# Altium integrated library NXP Semiconductors Automotive MOSFETs.IntLib: 540 symbols (part 8 of 16)
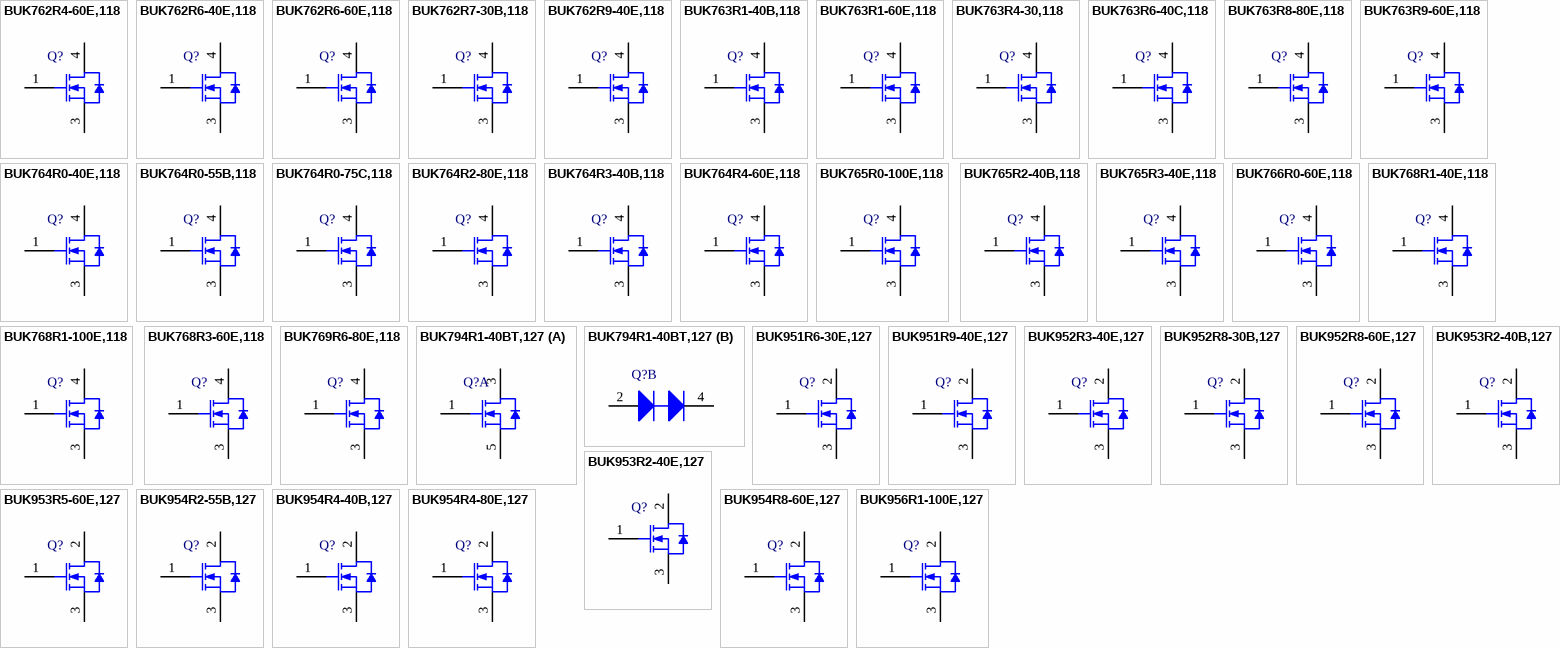
[diagram p21: symbols BUK762R4-60E,118 to BUK956R1-100E,127]

## BUK763R1-60E,118
designator Q?
N-Channel TrenchMOS Standard Level FET, 60 V, 120 A, 3-Pin SOT404, Tape and Reel; Manufacturer: NXP Semiconductors; PartNumber: BUK763R1-60E,118; Automotive Qualified: Y; Channel Type: N; ID [max] (A): 120; IDM [max] (A): 834; Packing: Tape & Reel; Qr [typ] (nC): 59.3; VDS [max] (V): 60; VGSth [typ] (V): 3; PackageVersion: 13-02-25, 02/2013; PackageReference: SOT404; PackageDescription: 3-Pin Plastic Single-ended Surface Mounted Package, Body 10 x 9.6 mm, Pitch 2.54 mm; Supplier 1: Digi-Key; Supplier Part Number 1: 568-9881-2-ND; Supplier 2: Digi-Key; Supplier Part Number 2: 568-9881-1-ND; Supplier 3: Digi-Key; Supplier Part Number 3: 568-9881-6-ND; Supplier 4: Mouser; Supplier Part Number 4: 771-BUK763R1-60E118; Mounting Technology: Surface Mount; ComponentLink1Description: Manufacturer URL; ComponentLink1URL: http://www.nxp.com/; ComponentLink2Description: Datasheet; ComponentLink2URL: http://www.nxp.com/documents/data_sheet/BUK763R1-60E.pdf; ComponentLink3Description: Package Specification; ComponentLink3URL: http://www.nxp.com/documents/outline_drawing/sot404_po.pdf
footprint NXP-SOT404_N (DPAK, 3-Leads, Body 10.3x9.8mm, Pitch 2.54mm, IPC Medium Density)
footprint NXP-SOT404_L (DPAK, 3-Leads, Body 10.3x9.8mm, Pitch 2.54mm, IPC High Density)
footprint NXP-SOT404_M (DPAK, 3-Leads, Body 10.3x9.8mm, Pitch 2.54mm, IPC Low Density)
pins: 1 G "gate", 3 S "source", 4 D "mounting base; connected to drain"

## BUK763R4-30,118
designator Q?
N-Channel TrenchMOS Standard Level FET, 30 V, 3-Pin SOT404, Tape and Reel; Manufacturer: NXP Semiconductors; PartNumber: BUK763R4-30,118; Automotive Qualified: Y; Channel Type: N; IDM [max] (A): 794; Packing: Tape & Reel; Qr [typ] (nC): 58; VDS [max] (V): 30; VGSth [typ] (V): 3; DatasheetVersion: Rev. 2; PackageVersion: 13-02-25, 02/2013; PackageReference: SOT404; PackageDescription: 3-Pin Plastic Single-ended Surface Mounted Package, Body 10 x 9.6 mm, Pitch 2.54 mm; Supplier 1: Mouser; Supplier Part Number 1: 771-BUK763R4-30,118; Mounting Technology: Surface Mount; ComponentLink1Description: Manufacturer URL; ComponentLink1URL: http://www.nxp.com/; ComponentLink2Description: Datasheet; ComponentLink2URL: http://www.nxp.com/documents/data_sheet/BUK763R4-30B.pdf; ComponentLink3Description: Package Specification; ComponentLink3URL: http://www.nxp.com/documents/outline_drawing/sot404_po.pdf
footprint NXP-SOT404_N (DPAK, 3-Leads, Body 10.3x9.8mm, Pitch 2.54mm, IPC Medium Density)
footprint NXP-SOT404_L (DPAK, 3-Leads, Body 10.3x9.8mm, Pitch 2.54mm, IPC High Density)
footprint NXP-SOT404_M (DPAK, 3-Leads, Body 10.3x9.8mm, Pitch 2.54mm, IPC Low Density)
pins: 1 G "gate", 3 S "source", 4 D "mounting base; connected to drain"

## BUK763R6-40C,118
designator Q?
N-Channel TrenchMOS Standard Level FET, 40 V, 3-Pin SOT404, Tape and Reel; Manufacturer: NXP Semiconductors; PartNumber: BUK763R6-40C,118; Automotive Qualified: Y; Channel Type: N; IDM [max] (A): 668; Packing: Tape & Reel; Qr [typ] (nC): 57; VDS [max] (V): 40; VGSth [typ] (V): 3; DatasheetVersion: Rev. 04; PackageVersion: 13-02-25, 02/2013; PackageReference: SOT404; PackageDescription: 3-Pin Plastic Single-ended Surface Mounted Package, Body 10 x 9.6 mm, Pitch 2.54 mm; Supplier 1: Digi-Key; Supplier Part Number 1: 568-5295-2-ND; Supplier 2: Digi-Key; Supplier Part Number 2: 568-5295-1-ND; Supplier 3: Digi-Key; Supplier Part Number 3: 568-5295-6-ND; Supplier 4: Mouser; Supplier Part Number 4: 771-BUK763R6-40C118; Mounting Technology: Surface Mount; ComponentLink1Description: Manufacturer URL; ComponentLink1URL: http://www.nxp.com/; ComponentLink2Description: Datasheet; ComponentLink2URL: http://www.nxp.com/documents/data_sheet/BUK763R6-40C.pdf; ComponentLink3Description: Package Specification; ComponentLink3URL: http://www.nxp.com/documents/outline_drawing/sot404_po.pdf
footprint NXP-SOT404_N (DPAK, 3-Leads, Body 10.3x9.8mm, Pitch 2.54mm, IPC Medium Density)
footprint NXP-SOT404_L (DPAK, 3-Leads, Body 10.3x9.8mm, Pitch 2.54mm, IPC High Density)
footprint NXP-SOT404_M (DPAK, 3-Leads, Body 10.3x9.8mm, Pitch 2.54mm, IPC Low Density)
pins: 1 G "gate", 3 S "source", 4 D "mounting base; connected to drain"

## BUK763R8-80E,118
designator Q?
N-Channel TrenchMOS Standard Level FET, 80 V, 120 A, 3-Pin SOT404, Tape and Reel; Manufacturer: NXP Semiconductors; PartNumber: BUK763R8-80E,118; Automotive Qualified: Y; Channel Type: N; ID [max] (A): 120; IDM [max] (A): 786; Packing: Tape & Reel; Qr [typ] (nC): 121; VDS [max] (V): 80; VGSth [typ] (V): 3; DatasheetVersion: Rev. 2; PackageVersion: 13-02-25, 02/2013; PackageReference: SOT404; PackageDescription: 3-Pin Plastic Single-ended Surface Mounted Package, Body 10 x 9.6 mm, Pitch 2.54 mm; Supplier 1: Digi-Key; Supplier Part Number 1: BUK763R8-80E,118-ND; Supplier 2: Mouser; Supplier Part Number 2: 771-BUK763R8-80E118; Mounting Technology: Surface Mount; ComponentLink1Description: Manufacturer URL; ComponentLink1URL: http://www.nxp.com/; ComponentLink2Description: Datasheet; ComponentLink2URL: http://www.nxp.com/documents/data_sheet/BUK763R8-80E.pdf; ComponentLink3Description: Package Specification; ComponentLink3URL: http://www.nxp.com/documents/outline_drawing/sot404_po.pdf
footprint NXP-SOT404_N (DPAK, 3-Leads, Body 10.3x9.8mm, Pitch 2.54mm, IPC Medium Density)
footprint NXP-SOT404_L (DPAK, 3-Leads, Body 10.3x9.8mm, Pitch 2.54mm, IPC High Density)
footprint NXP-SOT404_M (DPAK, 3-Leads, Body 10.3x9.8mm, Pitch 2.54mm, IPC Low Density)
pins: 1 G "gate", 3 S "source", 4 D "mounting base; connected to drain"

## BUK763R9-60E,118
designator Q?
N-Channel TrenchMOS Standard Level FET, 60 V, 100 A, 3-Pin SOT404, Tape and Reel; Manufacturer: NXP Semiconductors; PartNumber: BUK763R9-60E,118; Automotive Qualified: Y; Channel Type: N; ID [max] (A): 100; IDM [max] (A): 706; Packing: Tape & Reel; Qr [typ] (nC): 51; VDS [max] (V): 60; VGSth [typ] (V): 3; PackageVersion: 13-02-25, 02/2013; PackageReference: SOT404; PackageDescription: 3-Pin Plastic Single-ended Surface Mounted Package, Body 10 x 9.6 mm, Pitch 2.54 mm; Supplier 1: Digi-Key; Supplier Part Number 1: 568-10176-2-ND; Supplier 2: Digi-Key; Supplier Part Number 2: 568-10176-1-ND; Supplier 3: Digi-Key; Supplier Part Number 3: 568-10176-6-ND; Supplier 4: Mouser; Supplier Part Number 4: 771-BUK763R9-60E118; Mounting Technology: Surface Mount; ComponentLink1Description: Manufacturer URL; ComponentLink1URL: http://www.nxp.com/; ComponentLink2Description: Datasheet; ComponentLink2URL: http://www.nxp.com/documents/data_sheet/BUK763R9-60E.pdf; ComponentLink3Description: Package Specification; ComponentLink3URL: http://www.nxp.com/documents/outline_drawing/sot404_po.pdf
footprint NXP-SOT404_N (DPAK, 3-Leads, Body 10.3x9.8mm, Pitch 2.54mm, IPC Medium Density)
footprint NXP-SOT404_L (DPAK, 3-Leads, Body 10.3x9.8mm, Pitch 2.54mm, IPC High Density)
footprint NXP-SOT404_M (DPAK, 3-Leads, Body 10.3x9.8mm, Pitch 2.54mm, IPC Low Density)
pins: 1 G "gate", 3 S "source", 4 D "mounting base; connected to drain"

## BUK764R0-40E,118
designator Q?
N-Channel TrenchMOS Standard Level FET, 40 V, 75 A, 3-Pin SOT404, Tape and Reel; Manufacturer: NXP Semiconductors; PartNumber: BUK764R0-40E,118; Automotive Qualified: Y; Channel Type: N; ID [max] (A): 75; IDM [max] (A): 620; Packing: Tape & Reel; Qr [typ] (nC): 28.9; VDS [max] (V): 40; VGSth [typ] (V): 3; PackageVersion: 13-02-25, 02/2013; PackageReference: SOT404; PackageDescription: 3-Pin Plastic Single-ended Surface Mounted Package, Body 10 x 9.6 mm, Pitch 2.54 mm; Supplier 1: Digi-Key; Supplier Part Number 1: 568-9882-2-ND; Supplier 2: Digi-Key; Supplier Part Number 2: 568-9882-1-ND; Supplier 3: Digi-Key; Supplier Part Number 3: 568-9882-6-ND; Supplier 4: Mouser; Supplier Part Number 4: 771-BUK764R0-40E118; Mounting Technology: Surface Mount; ComponentLink1Description: Manufacturer URL; ComponentLink1URL: http://www.nxp.com/; ComponentLink2Description: Datasheet; ComponentLink2URL: http://www.nxp.com/documents/data_sheet/BUK764R0-40E.pdf; ComponentLink3Description: Package Specification; ComponentLink3URL: http://www.nxp.com/documents/outline_drawing/sot404_po.pdf
footprint NXP-SOT404_N (DPAK, 3-Leads, Body 10.3x9.8mm, Pitch 2.54mm, IPC Medium Density)
footprint NXP-SOT404_L (DPAK, 3-Leads, Body 10.3x9.8mm, Pitch 2.54mm, IPC High Density)
footprint NXP-SOT404_M (DPAK, 3-Leads, Body 10.3x9.8mm, Pitch 2.54mm, IPC Low Density)
pins: 1 G "gate", 3 S "source", 4 D "mounting base; connected to drain"

## BUK764R0-55B,118
designator Q?
N-Channel TrenchMOS Standard Level FET, 55 V, 3-Pin SOT404, Tape and Reel; Manufacturer: NXP Semiconductors; PartNumber: BUK764R0-55B,118; Automotive Qualified: Y; Channel Type: N; IDM [max] (A): 774; Packing: Tape & Reel; Qr [typ] (nC): 251; VDS [max] (V): 55; VGSth [typ] (V): 3; DatasheetVersion: Rev. 5; PackageVersion: 13-02-25, 02/2013; PackageReference: SOT404; PackageDescription: 3-Pin Plastic Single-ended Surface Mounted Package, Body 10 x 9.6 mm, Pitch 2.54 mm; Supplier 1: Digi-Key; Supplier Part Number 1: 568-6578-2-ND; Supplier 2: Digi-Key; Supplier Part Number 2: 568-6578-1-ND; Supplier 3: Digi-Key; Supplier Part Number 3: 568-6578-6-ND; Supplier 4: Newark; Supplier Part Number 4: 79R1849; Supplier 5: Mouser; Supplier Part Number 5: 771-BUK764R0-55B118; Mounting Technology: Surface Mount; ComponentLink1Description: Manufacturer URL; ComponentLink1URL: http://www.nxp.com/; ComponentLink2Description: Datasheet; ComponentLink2URL: http://www.nxp.com/documents/data_sheet/BUK764R0-55B.pdf; ComponentLink3Description: Package Specification; ComponentLink3URL: http://www.nxp.com/documents/outline_drawing/sot404_po.pdf
footprint NXP-SOT404_N (DPAK, 3-Leads, Body 10.3x9.8mm, Pitch 2.54mm, IPC Medium Density)
footprint NXP-SOT404_L (DPAK, 3-Leads, Body 10.3x9.8mm, Pitch 2.54mm, IPC High Density)
footprint NXP-SOT404_M (DPAK, 3-Leads, Body 10.3x9.8mm, Pitch 2.54mm, IPC Low Density)
pins: 1 G "gate", 3 S "source", 4 D "mounting base; connected to drain"

## BUK764R0-75C,118
designator Q?
N-Channel TrenchMOS Standard Level FET, 75 V, 3-Pin SOT404, Tape and Reel; Manufacturer: NXP Semiconductors; PartNumber: BUK764R0-75C,118; Automotive Qualified: Y; Channel Type: N; IDM [max] (A): 797; Packing: Tape & Reel; Qr [typ] (nC): 155; VDS [max] (V): 75; VGSth [typ] (V): 3; DatasheetVersion: Rev. 2; PackageVersion: 13-02-25, 02/2013; PackageReference: SOT404; PackageDescription: 3-Pin Plastic Single-ended Surface Mounted Package, Body 10 x 9.6 mm, Pitch 2.54 mm; Supplier 1: Digi-Key; Supplier Part Number 1: 568-6579-2-ND; Supplier 2: Digi-Key; Supplier Part Number 2: 568-6579-1-ND; Supplier 3: Digi-Key; Supplier Part Number 3: 568-6579-6-ND; Supplier 4: Newark; Supplier Part Number 4: 70R3490; Supplier 5: Mouser; Supplier Part Number 5: 771-BUK764R0-75C,118; Mounting Technology: Surface Mount; ComponentLink1Description: Manufacturer URL; ComponentLink1URL: http://www.nxp.com/; ComponentLink2Description: Datasheet; ComponentLink2URL: http://www.nxp.com/documents/data_sheet/BUK764R0-75C.pdf; ComponentLink3Description: Package Specification; ComponentLink3URL: http://www.nxp.com/documents/outline_drawing/sot404_po.pdf
footprint NXP-SOT404_N (DPAK, 3-Leads, Body 10.3x9.8mm, Pitch 2.54mm, IPC Medium Density)
footprint NXP-SOT404_L (DPAK, 3-Leads, Body 10.3x9.8mm, Pitch 2.54mm, IPC High Density)
footprint NXP-SOT404_M (DPAK, 3-Leads, Body 10.3x9.8mm, Pitch 2.54mm, IPC Low Density)
pins: 1 G "gate", 3 S "source", 4 D "mounting base; connected to drain"

## BUK764R2-80E,118
designator Q?
N-Channel TrenchMOS Standard Level FET, 80 V, 120 A, 3-Pin SOT404, Tape and Reel; Manufacturer: NXP Semiconductors; PartNumber: BUK764R2-80E,118; Automotive Qualified: Y; Channel Type: N; ID [max] (A): 120; IDM [max] (A): 713; Packing: Tape & Reel; Qr [typ] (nC): 95; VDS [max] (V): 80; VGSth [typ] (V): 3; PackageVersion: 13-02-25, 02/2013; PackageReference: SOT404; PackageDescription: 3-Pin Plastic Single-ended Surface Mounted Package, Body 10 x 9.6 mm, Pitch 2.54 mm; Supplier 1: Digi-Key; Supplier Part Number 1: 568-10244-2-ND; Supplier 2: Digi-Key; Supplier Part Number 2: 568-10244-1-ND; Supplier 3: Digi-Key; Supplier Part Number 3: 568-10244-6-ND; Supplier 4: Mouser; Supplier Part Number 4: 771-BUK764R2-80E118; Mounting Technology: Surface Mount; ComponentLink1Description: Manufacturer URL; ComponentLink1URL: http://www.nxp.com/; ComponentLink2Description: Datasheet; ComponentLink2URL: http://www.nxp.com/documents/data_sheet/BUK764R2-80E.pdf; ComponentLink3Description: Package Specification; ComponentLink3URL: http://www.nxp.com/documents/outline_drawing/sot404_po.pdf
footprint NXP-SOT404_N (DPAK, 3-Leads, Body 10.3x9.8mm, Pitch 2.54mm, IPC Medium Density)
footprint NXP-SOT404_L (DPAK, 3-Leads, Body 10.3x9.8mm, Pitch 2.54mm, IPC High Density)
footprint NXP-SOT404_M (DPAK, 3-Leads, Body 10.3x9.8mm, Pitch 2.54mm, IPC Low Density)
pins: 1 G "gate", 3 S "source", 4 D "mounting base; connected to drain"

## BUK764R3-40B,118
designator Q?
N-Channel TrenchMOS Standard Level FET, 40 V, 3-Pin SOT404, Tape and Reel; Manufacturer: NXP Semiconductors; PartNumber: BUK764R3-40B,118; Automotive Qualified: Y; Channel Type: N; IDM [max] (A): 706; Packing: Tape & Reel; Qr [typ] (nC): 62; VDS [max] (V): 40; VGSth [typ] (V): 3; DatasheetVersion: Rev. 02; PackageVersion: 13-02-25, 02/2013; PackageReference: SOT404; PackageDescription: 3-Pin Plastic Single-ended Surface Mounted Package, Body 10 x 9.6 mm, Pitch 2.54 mm; Supplier 1: Digi-Key; Supplier Part Number 1: 568-6580-2-ND; Supplier 2: Digi-Key; Supplier Part Number 2: 568-6580-1-ND; Supplier 3: Digi-Key; Supplier Part Number 3: 568-6580-6-ND; Supplier 4: Newark; Supplier Part Number 4: 70R3491; Supplier 5: Mouser; Supplier Part Number 5: 771-BUK764R3-40B118; Mounting Technology: Surface Mount; ComponentLink1Description: Manufacturer URL; ComponentLink1URL: http://www.nxp.com/; ComponentLink2Description: Datasheet; ComponentLink2URL: http://www.nxp.com/documents/data_sheet/BUK764R3-40B.pdf; ComponentLink3Description: Package Specification; ComponentLink3URL: http://www.nxp.com/documents/outline_drawing/sot404_po.pdf
footprint NXP-SOT404_N (DPAK, 3-Leads, Body 10.3x9.8mm, Pitch 2.54mm, IPC Medium Density)
footprint NXP-SOT404_L (DPAK, 3-Leads, Body 10.3x9.8mm, Pitch 2.54mm, IPC High Density)
footprint NXP-SOT404_M (DPAK, 3-Leads, Body 10.3x9.8mm, Pitch 2.54mm, IPC Low Density)
pins: 1 G "gate", 3 S "source", 4 D "mounting base; connected to drain"

## BUK764R4-60E,118
designator Q?
N-Channel TrenchMOS Standard Level FET, 60 V, 100 A, 3-Pin SOT404, Tape and Reel; Manufacturer: NXP Semiconductors; PartNumber: BUK764R4-60E,118; Automotive Qualified: Y; Channel Type: N; ID [max] (A): 100; IDM [max] (A): 620; Packing: Tape & Reel; Qr [typ] (nC): 49.6; VDS [max] (V): 60; VGSth [typ] (V): 3; PackageVersion: 13-02-25, 02/2013; PackageReference: SOT404; PackageDescription: 3-Pin Plastic Single-ended Surface Mounted Package, Body 10 x 9.6 mm, Pitch 2.54 mm; Supplier 1: Digi-Key; Supplier Part Number 1: 568-9883-2-ND; Supplier 2: Digi-Key; Supplier Part Number 2: 568-9883-1-ND; Supplier 3: Digi-Key; Supplier Part Number 3: 568-9883-6-ND; Supplier 4: Mouser; Supplier Part Number 4: 771-BUK764R4-60E118; Mounting Technology: Surface Mount; ComponentLink1Description: Manufacturer URL; ComponentLink1URL: http://www.nxp.com/; ComponentLink2Description: Datasheet; ComponentLink2URL: http://www.nxp.com/documents/data_sheet/BUK764R4-60E.pdf; ComponentLink3Description: Package Specification; ComponentLink3URL: http://www.nxp.com/documents/outline_drawing/sot404_po.pdf
footprint NXP-SOT404_N (DPAK, 3-Leads, Body 10.3x9.8mm, Pitch 2.54mm, IPC Medium Density)
footprint NXP-SOT404_L (DPAK, 3-Leads, Body 10.3x9.8mm, Pitch 2.54mm, IPC High Density)
footprint NXP-SOT404_M (DPAK, 3-Leads, Body 10.3x9.8mm, Pitch 2.54mm, IPC Low Density)
pins: 1 G "gate", 3 S "source", 4 D "mounting base; connected to drain"

## BUK765R0-100E,118
designator Q?
N-Channel TrenchMOS Standard Level FET, 100 V, 120 A, 3-Pin SOT404, Tape and Reel; Manufacturer: NXP Semiconductors; PartNumber: BUK765R0-100E,118; Automotive Qualified: Y; Channel Type: N; ID [max] (A): 120; IDM [max] (A): 650; Packing: Tape & Reel; Qr [typ] (nC): 191; VDS [max] (V): 100; VGSth [typ] (V): 3; DatasheetVersion: Rev. 2; PackageVersion: 13-02-25, 02/2013; PackageReference: SOT404; PackageDescription: 3-Pin Plastic Single-ended Surface Mounted Package, Body 10 x 9.6 mm, Pitch 2.54 mm; Supplier 1: Digi-Key; Supplier Part Number 1: 568-9567-2-ND; Supplier 2: Digi-Key; Supplier Part Number 2: 568-9567-1-ND; Supplier 3: Digi-Key; Supplier Part Number 3: 568-9567-6-ND; Supplier 4: Mouser; Supplier Part Number 4: 771-BUK765R0-100E118; Mounting Technology: Surface Mount; ComponentLink1Description: Manufacturer URL; ComponentLink1URL: http://www.nxp.com/; ComponentLink2Description: Datasheet; ComponentLink2URL: http://www.nxp.com/documents/data_sheet/BUK765R0-100E.pdf; ComponentLink3Description: Package Specification; ComponentLink3URL: http://www.nxp.com/documents/outline_drawing/sot404_po.pdf
footprint NXP-SOT404_N (DPAK, 3-Leads, Body 10.3x9.8mm, Pitch 2.54mm, IPC Medium Density)
footprint NXP-SOT404_L (DPAK, 3-Leads, Body 10.3x9.8mm, Pitch 2.54mm, IPC High Density)
footprint NXP-SOT404_M (DPAK, 3-Leads, Body 10.3x9.8mm, Pitch 2.54mm, IPC Low Density)
pins: 1 G "gate", 3 S "source", 4 D "mounting base; connected to drain"

## BUK765R2-40B,118
designator Q?
N-Channel TrenchMOS Standard Level FET, 40 V, 3-Pin SOT404, Tape and Reel; Manufacturer: NXP Semiconductors; PartNumber: BUK765R2-40B,118; Automotive Qualified: Y; Channel Type: N; IDM [max] (A): 573; Packing: Tape & Reel; Qr [typ] (nC): 38; VDS [max] (V): 40; VGSth [typ] (V): 3; DatasheetVersion: Rev. 3; PackageVersion: 13-02-25, 02/2013; PackageReference: SOT404; PackageDescription: 3-Pin Plastic Single-ended Surface Mounted Package, Body 10 x 9.6 mm, Pitch 2.54 mm; Supplier 1: Digi-Key; Supplier Part Number 1: 568-5856-2-ND; Supplier 2: Digi-Key; Supplier Part Number 2: 568-5856-1-ND; Supplier 3: Digi-Key; Supplier Part Number 3: 568-5856-6-ND; Supplier 4: Mouser; Supplier Part Number 4: 771-BUK765R2-40B118; Mounting Technology: Surface Mount; ComponentLink1Description: Manufacturer URL; ComponentLink1URL: http://www.nxp.com/; ComponentLink2Description: Datasheet; ComponentLink2URL: http://www.nxp.com/documents/data_sheet/BUK765R2-40B.pdf; ComponentLink3Description: Package Specification; ComponentLink3URL: http://www.nxp.com/documents/outline_drawing/sot404_po.pdf
footprint NXP-SOT404_N (DPAK, 3-Leads, Body 10.3x9.8mm, Pitch 2.54mm, IPC Medium Density)
footprint NXP-SOT404_L (DPAK, 3-Leads, Body 10.3x9.8mm, Pitch 2.54mm, IPC High Density)
footprint NXP-SOT404_M (DPAK, 3-Leads, Body 10.3x9.8mm, Pitch 2.54mm, IPC Low Density)
pins: 1 G "gate", 3 S "source", 4 D "mounting base; connected to drain"

## BUK765R3-40E,118
designator Q?
N-Channel TrenchMOS Standard Level FET, 40 V, 75 A, 3-Pin SOT404, Tape and Reel; Manufacturer: NXP Semiconductors; PartNumber: BUK765R3-40E,118; Automotive Qualified: Y; Channel Type: N; ID [max] (A): 75; IDM [max] (A): 485; Packing: Tape & Reel; Qr [typ] (nC): 19; VDS [max] (V): 40; VGSth [typ] (V): 3; PackageVersion: 13-02-25, 02/2013; PackageReference: SOT404; PackageDescription: 3-Pin Plastic Single-ended Surface Mounted Package, Body 10 x 9.6 mm, Pitch 2.54 mm; Supplier 1: Digi-Key; Supplier Part Number 1: 568-9884-2-ND; Supplier 2: Digi-Key; Supplier Part Number 2: 568-9884-1-ND; Supplier 3: Digi-Key; Supplier Part Number 3: 568-9884-6-ND; Supplier 4: Mouser; Supplier Part Number 4: 771-BUK765R3-40E118; Mounting Technology: Surface Mount; ComponentLink1Description: Manufacturer URL; ComponentLink1URL: http://www.nxp.com/; ComponentLink2Description: Datasheet; ComponentLink2URL: http://www.nxp.com/documents/data_sheet/BUK765R3-40E.pdf; ComponentLink3Description: Package Specification; ComponentLink3URL: http://www.nxp.com/documents/outline_drawing/sot404_po.pdf
footprint NXP-SOT404_N (DPAK, 3-Leads, Body 10.3x9.8mm, Pitch 2.54mm, IPC Medium Density)
footprint NXP-SOT404_L (DPAK, 3-Leads, Body 10.3x9.8mm, Pitch 2.54mm, IPC High Density)
footprint NXP-SOT404_M (DPAK, 3-Leads, Body 10.3x9.8mm, Pitch 2.54mm, IPC Low Density)
pins: 1 G "gate", 3 S "source", 4 D "mounting base; connected to drain"

## BUK766R0-60E,118
designator Q?
N-Channel TrenchMOS Standard Level FET, 60 V, 75 A, 3-Pin SOT404, Tape and Reel; Manufacturer: NXP Semiconductors; PartNumber: BUK766R0-60E,118; Automotive Qualified: Y; Channel Type: N; ID [max] (A): 75; IDM [max] (A): 473; Packing: Tape & Reel; Qr [typ] (nC): 43; VDS [max] (V): 60; VGSth [typ] (V): 3; PackageVersion: 13-02-25, 02/2013; PackageReference: SOT404; PackageDescription: 3-Pin Plastic Single-ended Surface Mounted Package, Body 10 x 9.6 mm, Pitch 2.54 mm; Supplier 1: Digi-Key; Supplier Part Number 1: 568-9885-2-ND; Supplier 2: Digi-Key; Supplier Part Number 2: 568-9885-1-ND; Supplier 3: Digi-Key; Supplier Part Number 3: 568-9885-6-ND; Supplier 4: Mouser; Supplier Part Number 4: 771-BUK766R0-60E118; Mounting Technology: Surface Mount; ComponentLink1Description: Manufacturer URL; ComponentLink1URL: http://www.nxp.com/; ComponentLink2Description: Datasheet; ComponentLink2URL: http://www.nxp.com/documents/data_sheet/BUK766R0-60E.pdf; ComponentLink3Description: Package Specification; ComponentLink3URL: http://www.nxp.com/documents/outline_drawing/sot404_po.pdf
footprint NXP-SOT404_N (DPAK, 3-Leads, Body 10.3x9.8mm, Pitch 2.54mm, IPC Medium Density)
footprint NXP-SOT404_L (DPAK, 3-Leads, Body 10.3x9.8mm, Pitch 2.54mm, IPC High Density)
footprint NXP-SOT404_M (DPAK, 3-Leads, Body 10.3x9.8mm, Pitch 2.54mm, IPC Low Density)
pins: 1 G "gate", 3 S "source", 4 D "mounting base; connected to drain"

## BUK768R1-40E,118
designator Q?
N-Channel TrenchMOS Standard Level FET, 40 V, 75 A, 3-Pin SOT404, Tape and Reel; Manufacturer: NXP Semiconductors; PartNumber: BUK768R1-40E,118; Automotive Qualified: Y; Channel Type: N; ID [max] (A): 75; IDM [max] (A): 335; Packing: Tape & Reel; Qr [typ] (nC): 10.7; VDS [max] (V): 40; VGSth [typ] (V): 3; DatasheetVersion: Rev. 1.1; PackageVersion: 13-02-25, 02/2013; PackageReference: SOT404; PackageDescription: 3-Pin Plastic Single-ended Surface Mounted Package, Body 10 x 9.6 mm, Pitch 2.54 mm; Supplier 1: Digi-Key; Supplier Part Number 1: 568-9886-2-ND; Supplier 2: Digi-Key; Supplier Part Number 2: 568-9886-1-ND; Supplier 3: Digi-Key; Supplier Part Number 3: 568-9886-6-ND; Supplier 4: Mouser; Supplier Part Number 4: 771-BUK768R1-40E118; Mounting Technology: Surface Mount; ComponentLink1Description: Manufacturer URL; ComponentLink1URL: http://www.nxp.com/; ComponentLink2Description: Datasheet; ComponentLink2URL: http://www.nxp.com/documents/data_sheet/BUK768R1-40E.pdf; ComponentLink3Description: Package Specification; ComponentLink3URL: http://www.nxp.com/documents/outline_drawing/sot404_po.pdf
footprint NXP-SOT404_N (DPAK, 3-Leads, Body 10.3x9.8mm, Pitch 2.54mm, IPC Medium Density)
footprint NXP-SOT404_L (DPAK, 3-Leads, Body 10.3x9.8mm, Pitch 2.54mm, IPC High Density)
footprint NXP-SOT404_M (DPAK, 3-Leads, Body 10.3x9.8mm, Pitch 2.54mm, IPC Low Density)
pins: 1 G "gate", 3 S "source", 4 D "mounting base; connected to drain"

## BUK768R1-100E,118
designator Q?
N-Channel TrenchMOS Standard Level FET, 100 V, 100 A, 3-Pin SOT404, Tape and Reel; Manufacturer: NXP Semiconductors; PartNumber: BUK768R1-100E,118; Automotive Qualified: Y; Channel Type: N; ID [max] (A): 100; IDM [max] (A): 439; Packing: Tape & Reel; Qr [typ] (nC): 134; VGSth [typ] (V): 3; PackageVersion: 13-02-25, 02/2013; PackageReference: SOT404; PackageDescription: 3-Pin Plastic Single-ended Surface Mounted Package, Body 10 x 9.6 mm, Pitch 2.54 mm; Supplier 1: Digi-Key; Supplier Part Number 1: 568-10171-2-ND; Supplier 2: Digi-Key; Supplier Part Number 2: 568-10171-1-ND; Supplier 3: Digi-Key; Supplier Part Number 3: 568-10171-6-ND; Supplier 4: Mouser; Supplier Part Number 4: 771-BUK768R1-100E118; VDS [max] (V): 100; Mounting Technology: Surface Mount; ComponentLink1Description: Manufacturer URL; ComponentLink1URL: http://www.nxp.com/; ComponentLink2Description: Datasheet; ComponentLink2URL: http://www.nxp.com/documents/data_sheet/BUK768R1-100E.pdf; ComponentLink3Description: Package Specification; ComponentLink3URL: http://www.nxp.com/documents/outline_drawing/sot404_po.pdf
footprint NXP-SOT404_N (DPAK, 3-Leads, Body 10.3x9.8mm, Pitch 2.54mm, IPC Medium Density)
footprint NXP-SOT404_L (DPAK, 3-Leads, Body 10.3x9.8mm, Pitch 2.54mm, IPC High Density)
footprint NXP-SOT404_M (DPAK, 3-Leads, Body 10.3x9.8mm, Pitch 2.54mm, IPC Low Density)
pins: 1 G "gate", 3 S "source", 4 D "mounting base; connected to drain"

## BUK768R3-60E,118
designator Q?
N-Channel TrenchMOS Standard Level FET, 60 V, 75 A, 3-Pin SOT404, Tape and Reel; Manufacturer: NXP Semiconductors; PartNumber: BUK768R3-60E,118; Automotive Qualified: Y; Channel Type: N; ID [max] (A): 75; IDM [max] (A): 349; Packing: Tape & Reel; Qr [typ] (nC): 24; VDS [max] (V): 60; VGSth [typ] (V): 3; PackageVersion: 13-02-25, 02/2013; PackageReference: SOT404; PackageDescription: 3-Pin Plastic Single-ended Surface Mounted Package, Body 10 x 9.6 mm, Pitch 2.54 mm; Supplier 1: Digi-Key; Supplier Part Number 1: 568-9887-2-ND; Supplier 2: Digi-Key; Supplier Part Number 2: 568-9887-1-ND; Supplier 3: Digi-Key; Supplier Part Number 3: 568-9887-6-ND; Supplier 4: Newark; Supplier Part Number 4: 45W7257; Supplier 5: Mouser; Supplier Part Number 5: 771-BUK768R3-60E118; Mounting Technology: Surface Mount; ComponentLink1Description: Manufacturer URL; ComponentLink1URL: http://www.nxp.com/; ComponentLink2Description: Datasheet; ComponentLink2URL: http://www.nxp.com/documents/data_sheet/BUK768R3-60E.pdf; ComponentLink3Description: Package Specification; ComponentLink3URL: http://www.nxp.com/documents/outline_drawing/sot404_po.pdf
footprint NXP-SOT404_N (DPAK, 3-Leads, Body 10.3x9.8mm, Pitch 2.54mm, IPC Medium Density)
footprint NXP-SOT404_L (DPAK, 3-Leads, Body 10.3x9.8mm, Pitch 2.54mm, IPC High Density)
footprint NXP-SOT404_M (DPAK, 3-Leads, Body 10.3x9.8mm, Pitch 2.54mm, IPC Low Density)
pins: 1 G "gate", 3 S "source", 4 D "mounting base; connected to drain"

## BUK769R6-80E,118
designator Q?
N-Channel TrenchMOS Standard Level FET, 80 V, 75 A, 3-Pin SOT404, Tape and Reel; Manufacturer: NXP Semiconductors; PartNumber: BUK769R6-80E,118; Automotive Qualified: Y; Channel Type: N; ID [max] (A): 75; IDM [max] (A): 354; Packing: Tape & Reel; Qr [typ] (nC): 54.8; VDS [max] (V): 80; VGSth [typ] (V): 3; PackageVersion: 13-02-25, 02/2013; PackageReference: SOT404; PackageDescription: 3-Pin Plastic Single-ended Surface Mounted Package, Body 10 x 9.6 mm, Pitch 2.54 mm; Supplier 1: Digi-Key; Supplier Part Number 1: 568-10245-2-ND; Supplier 2: Digi-Key; Supplier Part Number 2: 568-10245-1-ND; Supplier 3: Digi-Key; Supplier Part Number 3: 568-10245-6-ND; Supplier 4: Mouser; Supplier Part Number 4: 771-BUK769R6-80E118; Mounting Technology: Surface Mount; ComponentLink1Description: Manufacturer URL; ComponentLink1URL: http://www.nxp.com/; ComponentLink2Description: Datasheet; ComponentLink2URL: http://www.nxp.com/documents/data_sheet/BUK769R6-80E.pdf; ComponentLink3Description: Package Specification; ComponentLink3URL: http://www.nxp.com/documents/outline_drawing/sot404_po.pdf
footprint NXP-SOT404_N (DPAK, 3-Leads, Body 10.3x9.8mm, Pitch 2.54mm, IPC Medium Density)
footprint NXP-SOT404_L (DPAK, 3-Leads, Body 10.3x9.8mm, Pitch 2.54mm, IPC High Density)
footprint NXP-SOT404_M (DPAK, 3-Leads, Body 10.3x9.8mm, Pitch 2.54mm, IPC Low Density)
pins: 1 G "gate", 3 S "source", 4 D "mounting base; connected to drain"

## BUK794R1-40BT,127
designator Q?
N-Channel TrenchPLUS Standard Level FET, 40 V, 5-Pin SOT263B, Rail; Manufacturer: NXP Semiconductors; PartNumber: BUK794R1-40BT,127; Automotive Qualified: Y; Channel Type: N; IDM [max] (A): 748; Qr [typ] (nC): 55; VDS [max] (V): 40; VGSth [typ] (V): 3; DatasheetVersion: Rev. 02; PackageVersion: 01-01-11, 01/2001; PackageReference: SOT263B; PackageDescription: 5-Pin Flange Mount, Vertical Straight Lead, Body 4.3 x 10 mm, Pitch 1.7 mm; Supplier 1: Digi-Key; Supplier Part Number 1: 568-9739-5-ND; Supplier 2: Mouser; Supplier Part Number 2: 771-BUK794R1-40BT127; Packing: Rail; Mounting Technology: Through Hole; Code_JEDEC: 5-lead TO-220; ComponentLink1Description: Manufacturer URL; ComponentLink1URL: http://www.nxp.com/; ComponentLink2Description: Datasheet; ComponentLink2URL: http://www.nxp.com/documents/data_sheet/BUK794R1-40BT.pdf; ComponentLink3Description: Package Specification; ComponentLink3URL: http://www.nxp.com/documents/outline_drawing/sot263b_po.pdf
footprint NXP-SOT263B (FM, 5-Leads, Body 10.3x4.5mm, Pitch 1.7mm)
part A pins: 1 G "gate", 3 D "drain", 5 S "source"
part B pins: 2 A "anode", 4 K "cathode"

## BUK951R6-30E,127
designator Q?
N-Channel TrenchMOS Logic Level FET, 30 V, 120 A, 3-Pin SOT78A, Rail; Manufacturer: NXP Semiconductors; PartNumber: BUK951R6-30E,127; Automotive Qualified: Y; Channel Type: N; ID [max] (A): 120; IDM [max] (A): 1400; Qr [typ] (nC): 112; VDS [max] (V): 30; VGSth [typ] (V): 1.7; PackageVersion: 05-03-14, 03/2005; PackageReference: SOT78A; PackageDescription: 3-Pin Flange Mount, Vertical Straight Lead, Body 10 x 4.3 mm, Pitch 2.54 mm; Supplier 1: Digi-Key; Supplier Part Number 1: 568-9859-5-ND; Supplier 2: Mouser; Supplier Part Number 2: 771-BUK951R6-30E127; Packing: Rail; Mounting Technology: Through Hole; Code_JEITA: SC-46; Code_JEDEC: 3-lead TO-220AB; ComponentLink1Description: Manufacturer URL; ComponentLink1URL: http://www.nxp.com/; ComponentLink2Description: Datasheet; ComponentLink2URL: http://www.nxp.com/documents/data_sheet/BUK951R6-30E.pdf; ComponentLink3Description: Package Specification; ComponentLink3URL: http://www.nxp.com/documents/outline_drawing/sot078a_po.pdf
footprint NXP-SOT78A (FM, 3-Leads, Body 10.3x4.5mm, Pitch 2.54mm)
pins: 1 G "gate", 2 D "drain", 3 S "source"

## BUK951R9-40E,127
designator Q?
N-Channel TrenchMOS Logic Level FET, 40 V, 120 A, 3-Pin SOT78A, Rail; Manufacturer: NXP Semiconductors; PartNumber: BUK951R9-40E,127; Automotive Qualified: Y; Channel Type: N; ID [max] (A): 120; IDM [max] (A): 1257; Qr [typ] (nC): 97; VDS [max] (V): 40; VGSth [typ] (V): 1.7; PackageVersion: 05-03-14, 03/2005; PackageReference: SOT78A; PackageDescription: 3-Pin Flange Mount, Vertical Straight Lead, Body 10 x 4.3 mm, Pitch 2.54 mm; Supplier 1: Digi-Key; Supplier Part Number 1: 568-9860-5-ND; Supplier 2: Mouser; Supplier Part Number 2: 771-BUK951R9-40E127; Packing: Rail; Mounting Technology: Through Hole; Code_JEITA: SC-46; Code_JEDEC: 3-lead TO-220AB; ComponentLink1Description: Manufacturer URL; ComponentLink1URL: http://www.nxp.com/; ComponentLink2Description: Datasheet; ComponentLink2URL: http://www.nxp.com/documents/data_sheet/BUK951R9-40E.pdf; ComponentLink3Description: Package Specification; ComponentLink3URL: http://www.nxp.com/documents/outline_drawing/sot078a_po.pdf
footprint NXP-SOT78A (FM, 3-Leads, Body 10.3x4.5mm, Pitch 2.54mm)
pins: 1 G "gate", 2 D "drain", 3 S "source"

## BUK952R3-40E,127
designator Q?
N-Channel TrenchMOS Logic Level FET, 40 V, 120 A, 3-Pin SOT78A, Rail; Manufacturer: NXP Semiconductors; PartNumber: BUK952R3-40E,127; Automotive Qualified: Y; Channel Type: N; ID [max] (A): 120; IDM [max] (A): 988; Qr [typ] (nC): 62; VDS [max] (V): 40; VGSth [typ] (V): 1.7; PackageVersion: 05-03-14, 03/2005; PackageReference: SOT78A; PackageDescription: 3-Pin Flange Mount, Vertical Straight Lead, Body 10 x 4.3 mm, Pitch 2.54 mm; Supplier 1: Digi-Key; Supplier Part Number 1: 568-9861-5-ND; Supplier 2: Mouser; Supplier Part Number 2: 771-BUK952R3-40E127; Packing: Rail; Mounting Technology: Through Hole; Code_JEITA: SC-46; Code_JEDEC: 3-lead TO-220AB; ComponentLink1Description: Manufacturer URL; ComponentLink1URL: http://www.nxp.com/; ComponentLink2Description: Datasheet; ComponentLink2URL: http://www.nxp.com/documents/data_sheet/BUK952R3-40E.pdf; ComponentLink3Description: Package Specification; ComponentLink3URL: http://www.nxp.com/documents/outline_drawing/sot078a_po.pdf
footprint NXP-SOT78A (FM, 3-Leads, Body 10.3x4.5mm, Pitch 2.54mm)
pins: 1 G "gate", 2 D "drain", 3 S "source"

## BUK952R8-30B,127
designator Q?
N-Channel TrenchMOS Logic Level FET, 30 V, 3-Pin SOT78A, Rail; Manufacturer: NXP Semiconductors; PartNumber: BUK952R8-30B,127; Automotive Qualified: Y; Channel Type: N; IDM [max] (A): 950; Qr [typ] (nC): 171; VDS [max] (V): 30; VGSth [typ] (V): 1.5; DatasheetVersion: Rev. 3; PackageVersion: 05-03-14, 03/2005; PackageReference: SOT78A; PackageDescription: 3-Pin Flange Mount, Vertical Straight Lead, Body 10 x 4.3 mm, Pitch 2.54 mm; Supplier 1: Digi-Key; Supplier Part Number 1: 568-6633-5-ND; Supplier 2: Farnell; Supplier Part Number 2: 2076468; Supplier 3: Newark; Supplier Part Number 3: 70R3571; Supplier 4: Mouser; Supplier Part Number 4: 771-BUK952R8-30B127; Packing: Rail; Mounting Technology: Through Hole; Code_JEITA: SC-46; Code_JEDEC: 3-lead TO-220AB; ComponentLink1Description: Manufacturer URL; ComponentLink1URL: http://www.nxp.com/; ComponentLink2Description: Datasheet; ComponentLink2URL: http://www.nxp.com/documents/data_sheet/BUK952R8-30B.pdf; ComponentLink3Description: Package Specification; ComponentLink3URL: http://www.nxp.com/documents/outline_drawing/sot078a_po.pdf
footprint NXP-SOT78A (FM, 3-Leads, Body 10.3x4.5mm, Pitch 2.54mm)
pins: 1 G "gate", 2 D "drain", 3 S "source"

## BUK952R8-60E,127
designator Q?
N-Channel TrenchMOS Logic Level FET, 60 V, 120 A, 3-Pin SOT78A, Rail; Manufacturer: NXP Semiconductors; PartNumber: BUK952R8-60E,127; Automotive Qualified: Y; Channel Type: N; ID [max] (A): 120; IDM [max] (A): 952; Qr [typ] (nC): 98; VDS [max] (V): 60; VGSth [typ] (V): 1.7; PackageVersion: 05-03-14, 03/2005; PackageReference: SOT78A; PackageDescription: 3-Pin Flange Mount, Vertical Straight Lead, Body 10 x 4.3 mm, Pitch 2.54 mm; Supplier 1: Digi-Key; Supplier Part Number 1: 568-9862-5-ND; Supplier 2: Mouser; Supplier Part Number 2: 771-BUK952R8-60E127; Packing: Rail; Mounting Technology: Through Hole; Code_JEITA: SC-46; Code_JEDEC: 3-lead TO-220AB; ComponentLink1Description: Manufacturer URL; ComponentLink1URL: http://www.nxp.com/; ComponentLink2Description: Datasheet; ComponentLink2URL: http://www.nxp.com/documents/data_sheet/BUK952R8-60E.pdf; ComponentLink3Description: Package Specification; ComponentLink3URL: http://www.nxp.com/documents/outline_drawing/sot078a_po.pdf
footprint NXP-SOT78A (FM, 3-Leads, Body 10.3x4.5mm, Pitch 2.54mm)
pins: 1 G "gate", 2 D "drain", 3 S "source"

## BUK953R2-40B,127
designator Q?
N-Channel TrenchMOS Logic Level FET, 40 V, 3-Pin SOT78A, Rail; Manufacturer: NXP Semiconductors; PartNumber: BUK953R2-40B,127; Automotive Qualified: Y; Channel Type: N; IDM [max] (A): 888; Qr [typ] (nC): 127; VDS [max] (V): 40; VGSth [typ] (V): 1.5; PackageVersion: 05-03-14, 03/2005; PackageReference: SOT78A; PackageDescription: 3-Pin Flange Mount, Vertical Straight Lead, Body 10 x 4.3 mm, Pitch 2.54 mm; Supplier 1: Digi-Key; Supplier Part Number 1: 568-6634-5-ND; Supplier 2: Mouser; Supplier Part Number 2: 771-BUK953R2-40B127; Packing: Rail; Mounting Technology: Through Hole; Code_JEITA: SC-46; Code_JEDEC: 3-lead TO-220AB; ComponentLink1Description: Manufacturer URL; ComponentLink1URL: http://www.nxp.com/; ComponentLink2Description: Datasheet; ComponentLink2URL: http://www.nxp.com/documents/data_sheet/BUK953R2-40B.pdf; ComponentLink3Description: Package Specification; ComponentLink3URL: http://www.nxp.com/documents/outline_drawing/sot078a_po.pdf
footprint NXP-SOT78A (FM, 3-Leads, Body 10.3x4.5mm, Pitch 2.54mm)
pins: 1 G "gate", 2 D "drain", 3 S "source"

## BUK953R2-40E,127
designator Q?
N-Channel TrenchMOS Logic Level FET, 40 V, 100 A, 3-Pin SOT78A, Rail; Manufacturer: NXP Semiconductors; PartNumber: BUK953R2-40E,127; Automotive Qualified: Y; Channel Type: N; ID [max] (A): 100; IDM [max] (A): 781; Qr [typ] (nC): 47; VDS [max] (V): 40; VGSth [typ] (V): 1.7; PackageVersion: 05-03-14, 03/2005; PackageReference: SOT78A; PackageDescription: 3-Pin Flange Mount, Vertical Straight Lead, Body 10 x 4.3 mm, Pitch 2.54 mm; Supplier 1: Digi-Key; Supplier Part Number 1: 568-9863-5-ND; Supplier 2: Mouser; Supplier Part Number 2: 771-BUK953R2-40E127; Packing: Rail; Mounting Technology: Through Hole; Code_JEITA: SC-46; Code_JEDEC: 3-lead TO-220AB; ComponentLink1Description: Manufacturer URL; ComponentLink1URL: http://www.nxp.com/; ComponentLink2Description: Datasheet; ComponentLink2URL: http://www.nxp.com/documents/data_sheet/BUK953R2-40E.pdf; ComponentLink3Description: Package Specification; ComponentLink3URL: http://www.nxp.com/documents/outline_drawing/sot078a_po.pdf
footprint NXP-SOT78A (FM, 3-Leads, Body 10.3x4.5mm, Pitch 2.54mm)
pins: 1 G "gate", 2 D "drain", 3 S "source"

## BUK953R5-60E,127
designator Q?
N-Channel TrenchMOS Logic Level FET, 60 V, 120 A, 3-Pin SOT78A, Rail; Manufacturer: NXP Semiconductors; PartNumber: BUK953R5-60E,127; Automotive Qualified: Y; Channel Type: N; ID [max] (A): 120; IDM [max] (A): 758; Qr [typ] (nC): 67; VDS [max] (V): 60; VGSth [typ] (V): 1.7; PackageVersion: 05-03-14, 03/2005; PackageReference: SOT78A; PackageDescription: 3-Pin Flange Mount, Vertical Straight Lead, Body 10 x 4.3 mm, Pitch 2.54 mm; Supplier 1: Digi-Key; Supplier Part Number 1: 568-9864-5-ND; Supplier 2: Mouser; Supplier Part Number 2: 771-BUK953R5-60E127; Packing: Rail; Mounting Technology: Through Hole; Code_JEITA: SC-46; Code_JEDEC: 3-lead TO-220AB; ComponentLink1Description: Manufacturer URL; ComponentLink1URL: http://www.nxp.com/; ComponentLink2Description: Datasheet; ComponentLink2URL: http://www.nxp.com/documents/data_sheet/BUK953R5-60E.pdf; ComponentLink3Description: Package Specification; ComponentLink3URL: http://www.nxp.com/documents/outline_drawing/sot078a_po.pdf
footprint NXP-SOT78A (FM, 3-Leads, Body 10.3x4.5mm, Pitch 2.54mm)
pins: 1 G "gate", 2 D "drain", 3 S "source"

## BUK954R2-55B,127
designator Q?
N-Channel TrenchMOS Logic Level FET, 55 V, 3-Pin SOT78, Rail; Manufacturer: NXP Semiconductors; PartNumber: BUK954R2-55B,127; Automotive Qualified: Y; Channel Type: N; IDM [max] (A): 765; Qr [typ] (nC): 171; VDS [max] (V): 55; VGSth [typ] (V): 1.5; DatasheetVersion: Rev. 03; PackageVersion: 08-06-13, 06/2008; PackageReference: SOT78; PackageDescription: 3-Pin Flange Mount, Vertical Straight Lead, Body 10 x 4.4 mm, Pitch 2.54 mm; Supplier 1: Digi-Key; Supplier Part Number 1: 568-6635-5-ND; Supplier 2: Mouser; Supplier Part Number 2: 771-BUK954R2-55B127; Packing: Rail; Mounting Technology: Through Hole; Code_JEITA: SC-46; Code_JEDEC: 3-lead TO-220AB; ComponentLink1Description: Manufacturer URL; ComponentLink1URL: http://www.nxp.com/; ComponentLink2Description: Datasheet; ComponentLink2URL: http://www.nxp.com/documents/data_sheet/BUK954R2-55B.pdf; ComponentLink3Description: Package Specification; ComponentLink3URL: http://www.nxp.com/documents/outline_drawing/sot078_po.pdf
footprint NXP-SOT78 (FM, 3-Leads, Body 10.3x4.7mm, Pitch 2.54mm)
pins: 1 G "gate", 2 D "drain", 3 S "source"

## BUK954R4-40B,127
designator Q?
N-Channel TrenchMOS Logic Level FET, 40 V, 3-Pin SOT78A, Rail; Manufacturer: NXP Semiconductors; PartNumber: BUK954R4-40B,127; Automotive Qualified: Y; Channel Type: N; IDM [max] (A): 697; Qr [typ] (nC): 67; VDS [max] (V): 40; VGSth [typ] (V): 1.5; DatasheetVersion: Rev. 03; PackageVersion: 05-03-14, 03/2005; PackageReference: SOT78A; PackageDescription: 3-Pin Flange Mount, Vertical Straight Lead, Body 10 x 4.3 mm, Pitch 2.54 mm; Supplier 1: Digi-Key; Supplier Part Number 1: 568-6636-5-ND; Supplier 2: Mouser; Supplier Part Number 2: 771-BUK954R4-40B127; Packing: Rail; Mounting Technology: Through Hole; Code_JEITA: SC-46; Code_JEDEC: 3-lead TO-220AB; ComponentLink1Description: Manufacturer URL; ComponentLink1URL: http://www.nxp.com/; ComponentLink2Description: Datasheet; ComponentLink2URL: http://www.nxp.com/documents/data_sheet/BUK954R4-40B.pdf; ComponentLink3Description: Package Specification; ComponentLink3URL: http://www.nxp.com/documents/outline_drawing/sot078a_po.pdf
footprint NXP-SOT78A (FM, 3-Leads, Body 10.3x4.5mm, Pitch 2.54mm)
pins: 1 G "gate", 2 D "drain", 3 S "source"

## BUK954R4-80E,127
designator Q?
N-Channel TrenchMOS Logic Level FET, 80 V, 120 A, 3-Pin SOT78A, Rail; Manufacturer: NXP Semiconductors; PartNumber: BUK954R4-80E,127; Automotive Qualified: Y; Channel Type: N; ID [max] (A): 120; IDM [max] (A): 715; Qr [typ] (nC): 139; VDS [max] (V): 80; VGSth [typ] (V): 1.7; PackageVersion: 05-03-14, 03/2005; PackageReference: SOT78A; PackageDescription: 3-Pin Flange Mount, Vertical Straight Lead, Body 10 x 4.3 mm, Pitch 2.54 mm; Supplier 1: Digi-Key; Supplier Part Number 1: 568-9865-5-ND; Supplier 2: Newark; Supplier Part Number 2: 45W7311; Supplier 3: Mouser; Supplier Part Number 3: 771-BUK954R4-80E127; Packing: Rail; Mounting Technology: Through Hole; Code_JEITA: SC-46; Code_JEDEC: 3-lead TO-220AB; ComponentLink1Description: Manufacturer URL; ComponentLink1URL: http://www.nxp.com/; ComponentLink2Description: Datasheet; ComponentLink2URL: http://www.nxp.com/documents/data_sheet/BUK954R4-80E.pdf; ComponentLink3Description: Package Specification; ComponentLink3URL: http://www.nxp.com/documents/outline_drawing/sot078a_po.pdf
footprint NXP-SOT78A (FM, 3-Leads, Body 10.3x4.5mm, Pitch 2.54mm)
pins: 1 G "gate", 2 D "drain", 3 S "source"

## BUK954R8-60E,127
designator Q?
N-Channel TrenchMOS Logic Level FET, 60 V, 100 A, 3-Pin SOT78A, Rail; Manufacturer: NXP Semiconductors; PartNumber: BUK954R8-60E,127; Automotive Qualified: Y; Channel Type: N; ID [max] (A): 100; IDM [max] (A): 590; Qr [typ] (nC): 56; VDS [max] (V): 60; VGSth [typ] (V): 1.7; PackageVersion: 05-03-14, 03/2005; PackageReference: SOT78A; PackageDescription: 3-Pin Flange Mount, Vertical Straight Lead, Body 10 x 4.3 mm, Pitch 2.54 mm; Supplier 1: Digi-Key; Supplier Part Number 1: 568-10287-ND; Supplier 2: Mouser; Supplier Part Number 2: 771-BUK954R8-60E127; Packing: Rail; Mounting Technology: Through Hole; Code_JEITA: SC-46; Code_JEDEC: 3-lead TO-220AB; ComponentLink1Description: Manufacturer URL; ComponentLink1URL: http://www.nxp.com/; ComponentLink2Description: Datasheet; ComponentLink2URL: http://www.nxp.com/documents/data_sheet/BUK954R8-60E.pdf; ComponentLink3Description: Package Specification; ComponentLink3URL: http://www.nxp.com/documents/outline_drawing/sot078a_po.pdf
footprint NXP-SOT78A (FM, 3-Leads, Body 10.3x4.5mm, Pitch 2.54mm)
pins: 1 G "gate", 2 D "drain", 3 S "source"

## BUK956R1-100E,127
designator Q?
N-Channel TrenchMOS Logic Level FET, 100 V, 120 A, 3-Pin SOT78A, Rail; Manufacturer: NXP Semiconductors; PartNumber: BUK956R1-100E,127; Automotive Qualified: Y; Channel Type: N; ID [max] (A): 120; IDM [max] (A): 576; Qr [typ] (nC): 202; VDS [max] (V): 100; VGSth [typ] (V): 1.7; PackageVersion: 05-03-14, 03/2005; PackageReference: SOT78A; PackageDescription: 3-Pin Flange Mount, Vertical Straight Lead, Body 10 x 4.3 mm, Pitch 2.54 mm; Supplier 1: Digi-Key; Supplier Part Number 1: 568-9866-5-ND; Supplier 2: Mouser; Supplier Part Number 2: 771-BUK956R1-100E127; Packing: Rail; Mounting Technology: Through Hole; Code_JEITA: SC-46; Code_JEDEC: 3-lead TO-220AB; ComponentLink1Description: Manufacturer URL; ComponentLink1URL: http://www.nxp.com/; ComponentLink2Description: Datasheet; ComponentLink2URL: http://www.nxp.com/documents/data_sheet/BUK956R1-100E.pdf; ComponentLink3Description: Package Specification; ComponentLink3URL: http://www.nxp.com/documents/outline_drawing/sot078a_po.pdf
footprint NXP-SOT78A (FM, 3-Leads, Body 10.3x4.5mm, Pitch 2.54mm)
pins: 1 G "gate", 2 D "drain", 3 S "source"

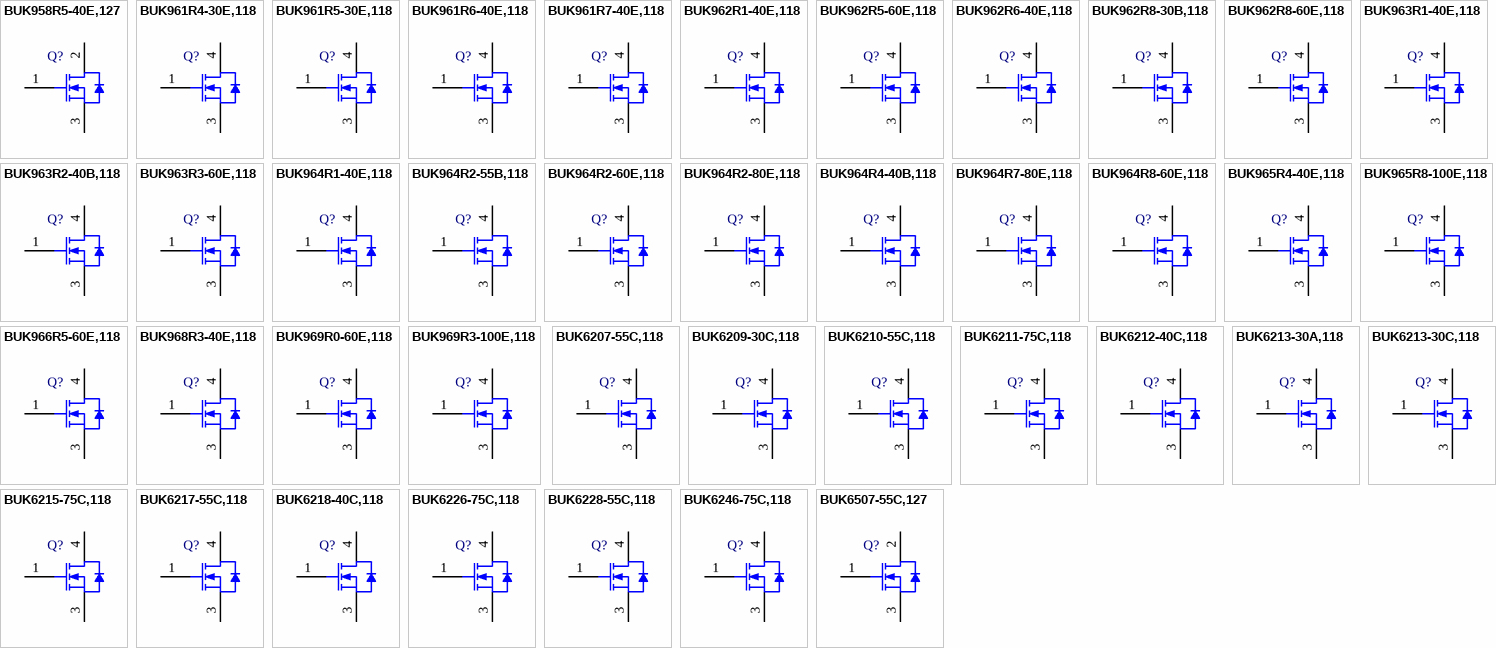
[diagram p8: symbols BUK958R5-40E,127 to BUK6507-55C,127]

## BUK958R5-40E,127
designator Q?
N-Channel TrenchMOS Logic Level FET, 40 V, 75 A, 3-Pin SOT78A, Rail; Manufacturer: NXP Semiconductors; PartNumber: BUK958R5-40E,127; Automotive Qualified: Y; Channel Type: N; ID [max] (A): 75; IDM [max] (A): 315; Qr [typ] (nC): 13.6; VDS [max] (V): 40; VGSth [typ] (V): 1.7; PackageVersion: 05-03-14, 03/2005; PackageReference: SOT78A; PackageDescription: 3-Pin Flange Mount, Vertical Straight Lead, Body 10 x 4.3 mm, Pitch 2.54 mm; Supplier 1: Digi-Key; Supplier Part Number 1: 568-9867-5-ND; Supplier 2: Mouser; Supplier Part Number 2: 771-BUK958R5-40E127; Packing: Rail; Mounting Technology: Through Hole; Code_JEITA: SC-46; Code_JEDEC: 3-lead TO-220AB; ComponentLink1Description: Manufacturer URL; ComponentLink1URL: http://www.nxp.com/; ComponentLink2Description: Datasheet; ComponentLink2URL: http://www.nxp.com/documents/data_sheet/BUK958R5-40E.pdf; ComponentLink3Description: Package Specification; ComponentLink3URL: http://www.nxp.com/documents/outline_drawing/sot078a_po.pdf
footprint NXP-SOT78A (FM, 3-Leads, Body 10.3x4.5mm, Pitch 2.54mm)
pins: 1 G "gate", 2 D "drain", 3 S "source"

## BUK961R4-30E,118
designator Q?
N-Channel TrenchMOS Logic Level FET, 30 V, 120 A, 3-Pin SOT404, Tape and Reel; Manufacturer: NXP Semiconductors; PartNumber: BUK961R4-30E,118; Automotive Qualified: Y; Channel Type: N; ID [max] (A): 120; IDM [max] (A): 1513; Packing: Tape & Reel; Qr [typ] (nC): 112; VDS [max] (V): 30; VGSth [typ] (V): 1.7; DatasheetVersion: Rev. 2; PackageVersion: 13-02-25, 02/2013; PackageReference: SOT404; PackageDescription: 3-Pin Plastic Single-ended Surface Mounted Package, Body 10 x 9.6 mm, Pitch 2.54 mm; Supplier 1: Digi-Key; Supplier Part Number 1: 568-9568-2-ND; Supplier 2: Digi-Key; Supplier Part Number 2: 568-9568-1-ND; Supplier 3: Digi-Key; Supplier Part Number 3: 568-9568-6-ND; Supplier 4: Newark; Supplier Part Number 4: 45W7315; Supplier 5: Mouser; Supplier Part Number 5: 771-BUK961R4-30E,118; Mounting Technology: Surface Mount; ComponentLink1Description: Manufacturer URL; ComponentLink1URL: http://www.nxp.com/; ComponentLink2Description: Datasheet; ComponentLink2URL: http://www.nxp.com/documents/data_sheet/BUK961R4-30E.pdf; ComponentLink3Description: Package Specification; ComponentLink3URL: http://www.nxp.com/documents/outline_drawing/sot404_po.pdf
footprint NXP-SOT404_N (DPAK, 3-Leads, Body 10.3x9.8mm, Pitch 2.54mm, IPC Medium Density)
footprint NXP-SOT404_L (DPAK, 3-Leads, Body 10.3x9.8mm, Pitch 2.54mm, IPC High Density)
footprint NXP-SOT404_M (DPAK, 3-Leads, Body 10.3x9.8mm, Pitch 2.54mm, IPC Low Density)
pins: 1 G "gate", 3 S "source", 4 D "mounting base; connected to drain"

## BUK961R5-30E,118
designator Q?
N-Channel TrenchMOS Logic Level FET, 30 V, 120 A, 3-Pin SOT404, Tape and Reel; Manufacturer: NXP Semiconductors; PartNumber: BUK961R5-30E,118; Automotive Qualified: Y; Channel Type: N; ID [max] (A): 120; IDM [max] (A): 1393; Packing: Tape & Reel; Qr [typ] (nC): 72.2; VDS [max] (V): 30; VGSth [typ] (V): 1.7; PackageVersion: 13-02-25, 02/2013; PackageReference: SOT404; PackageDescription: 3-Pin Plastic Single-ended Surface Mounted Package, Body 10 x 9.6 mm, Pitch 2.54 mm; Supplier 1: Digi-Key; Supplier Part Number 1: 568-10172-2-ND; Supplier 2: Digi-Key; Supplier Part Number 2: 568-10172-1-ND; Supplier 3: Digi-Key; Supplier Part Number 3: 568-10172-6-ND; Supplier 4: Mouser; Supplier Part Number 4: 771-BUK961R5-30E118; Mounting Technology: Surface Mount; ComponentLink1Description: Manufacturer URL; ComponentLink1URL: http://www.nxp.com/; ComponentLink2Description: Datasheet; ComponentLink2URL: http://www.nxp.com/documents/data_sheet/BUK961R5-30E.pdf; ComponentLink3Description: Package Specification; ComponentLink3URL: http://www.nxp.com/documents/outline_drawing/sot404_po.pdf
footprint NXP-SOT404_N (DPAK, 3-Leads, Body 10.3x9.8mm, Pitch 2.54mm, IPC Medium Density)
footprint NXP-SOT404_L (DPAK, 3-Leads, Body 10.3x9.8mm, Pitch 2.54mm, IPC High Density)
footprint NXP-SOT404_M (DPAK, 3-Leads, Body 10.3x9.8mm, Pitch 2.54mm, IPC Low Density)
pins: 1 G "gate", 3 S "source", 4 D "mounting base; connected to drain"

## BUK961R6-40E,118
designator Q?
N-Channel TrenchMOS Logic Level FET, 40 V, 120 A, 3-Pin SOT404, Tape and Reel; Manufacturer: NXP Semiconductors; PartNumber: BUK961R6-40E,118; Automotive Qualified: Y; Channel Type: N; ID [max] (A): 120; IDM [max] (A): 1363; Packing: Tape & Reel; Qr [typ] (nC): 97; VDS [max] (V): 40; VGSth [typ] (V): 1.7; DatasheetVersion: Rev. 2; PackageVersion: 13-02-25, 02/2013; PackageReference: SOT404; PackageDescription: 3-Pin Plastic Single-ended Surface Mounted Package, Body 10 x 9.6 mm, Pitch 2.54 mm; Supplier 1: Digi-Key; Supplier Part Number 1: BUK961R6-40E,118-ND; Supplier 2: Mouser; Supplier Part Number 2: 771-BUK961R6-40E118; Mounting Technology: Surface Mount; ComponentLink1Description: Manufacturer URL; ComponentLink1URL: http://www.nxp.com/; ComponentLink2Description: Datasheet; ComponentLink2URL: http://www.nxp.com/documents/data_sheet/BUK961R6-40E.pdf; ComponentLink3Description: Package Specification; ComponentLink3URL: http://www.nxp.com/documents/outline_drawing/sot404_po.pdf
footprint NXP-SOT404_N (DPAK, 3-Leads, Body 10.3x9.8mm, Pitch 2.54mm, IPC Medium Density)
footprint NXP-SOT404_L (DPAK, 3-Leads, Body 10.3x9.8mm, Pitch 2.54mm, IPC High Density)
footprint NXP-SOT404_M (DPAK, 3-Leads, Body 10.3x9.8mm, Pitch 2.54mm, IPC Low Density)
pins: 1 G "gate", 3 S "source", 4 D "mounting base; connected to drain"